# Altium footprint library my-common.PcbLib: 11 footprints
Each footprint in its own frame and in the unit in brackets; x right, y up, seen from the top. Pads: shape width x height; smd on the part's side, far side on the other; paste and mask are expansions set on the pad; w line width, h text height; cw(c..) or ccw(c..) is an arc to the next point about the centre after c.
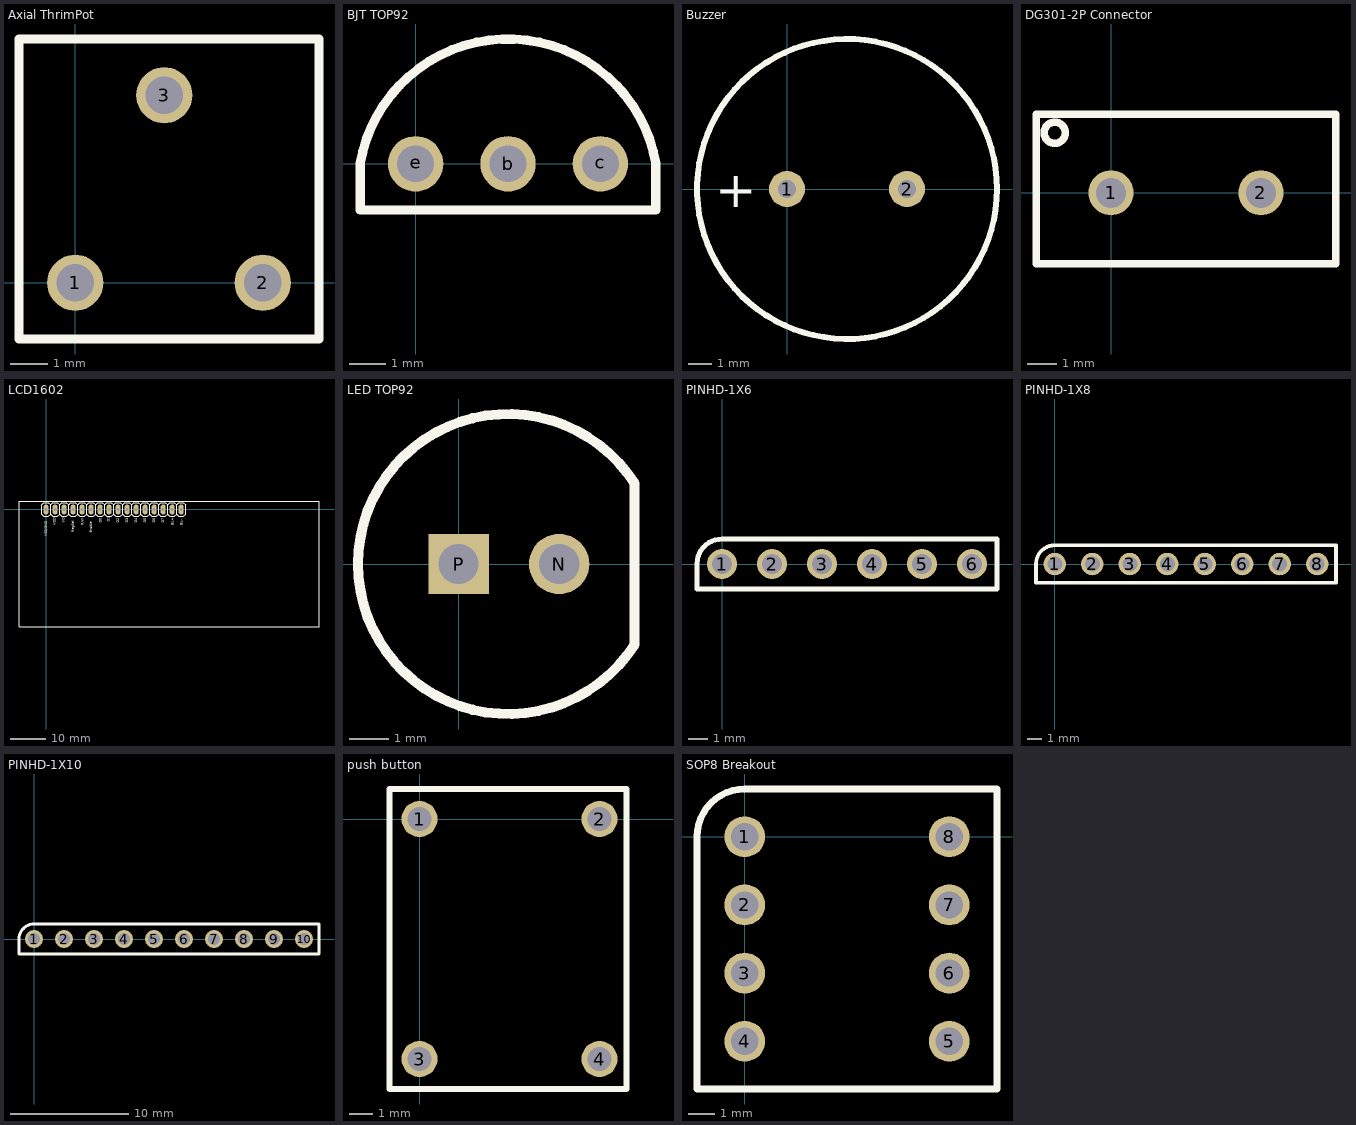
[diagram p0: the footprints below, top view; thin cyan lines are the x and y axes]

## Axial ThrimPot [mil]
pads (3):
  round 60 hole 40: 1(0,0) 2(200,0) 3(95,200)
Top Overlay:
  lines w10: -60,-60 260,-60 260,260 -60,260 -60,-60

## BJT TOP92 [mil]
pads (3):
  round 60 hole 40: b(100,0) c(200,0) e(0,0)
Top Overlay:
  lines w10: -60,-50 -60,-15.69 -60,0 cw(c100,-27.31) 260,0 260,-50 -60,-50

## Buzzer [mil]
pads (2):
  round 60 hole 30: 1(0,0) 2(200,0)
Top Overlay:
  circle w10: c100,0 r250
  text "+" at -120,-30 h60

## DG301-2P Connector [mil]
pads (2):
  round 60 hole 40: 1(0,0) 2(200,0)
Top Overlay:
  circle w10: c-75,80 r14.14
  lines w10: -100,-95 300,-95 300,105 -100,105 -100,-95

## LCD1602 [mil]
pads (16):
  oval 56x112 hole 34: 1(0,0) 2(100,0) 3(200,0) 4(300,0) 5(400,0) 6(500,0) 7(600,0) 8(700,0) 9(800,0) 10(900,0) 11(1000,0) 12(1100,0) 13(1200,0) 14(1300,0) 15(1400,0) 16(1500,0)
Top Overlay:
  lines w10: -50,-50 -25,-75 ; -50,-50 -50,50 ; -50,-50 -50,50 ; -50,-50 -25,-75 ; -50,50 -25,75 ; -50,50 -25,75 ; -25,-75 25,-75 ; -25,-75 25,-75 ; -25,75 25,75 ; -25,75 25,75 ; 25,-75 50,-50 ; 25,-75 50,-50 ; 25,75 50,50 ; 25,75 50,50 ; 50,-50 75,-75 125,-75 150,-50 ; 50,-50 50,50 ; 50,-50 50,50 ; 50,-50 50,50 ; 50,50 75,75 125,75 150,50 ; 150,-50 175,-75 225,-75 250,-50 ; 150,-50 150,50 ; 150,-50 150,50 ; 150,50 175,75 225,75 250,50 ; 250,-50 275,-75 325,-75 350,-50 ; 250,-50 250,50 ; 250,-50 250,50 ; 250,50 275,75 325,75 350,50 ; 350,-50 375,-75 425,-75 450,-50 ; 350,-50 350,50 ; 350,-50 350,50 ; 350,50 375,75 425,75 450,50 ; 450,-50 475,-75 525,-75 550,-50 ; 450,-50 450,50 ; 450,-50 450,50 ; 450,50 475,75 525,75 550,50 ; 550,-50 575,-75 625,-75 650,-50 ; 550,-50 550,50 ; 550,-50 550,50 ; 550,50 575,75 625,75 650,50 ; 650,-50 675,-75 725,-75 750,-50 ; 650,-50 650,50 ; 650,-50 650,50 ; 650,50 675,75 725,75 750,50 ; 750,-50 775,-75 825,-75 850,-50 ; 750,-50 750,50 ; 750,-50 750,50 ; 750,50 775,75 825,75 850,50 ; 850,-50 875,-75 925,-75 950,-50 ; 850,-50 850,50 ; 850,-50 850,50 ; 850,50 875,75 925,75 950,50 ; 950,-50 975,-75 1025,-75 1050,-50 ; 950,-50 950,50 ; 950,-50 950,50 ; 950,50 975,75 1025,75 1050,50 ; 1050,-50 1075,-75 1125,-75 1150,-50 ; 1050,-50 1050,50 ; 1050,-50 1050,50 ; 1050,50 1075,75 1125,75 1150,50 ; 1150,-50 1175,-75 1225,-75 1250,-50 ; 1150,-50 1150,50 ; 1150,-50 1150,50 ; 1150,50 1175,75 1225,75 1250,50 ; 1250,-50 1275,-75 1325,-75 1350,-50 ; 1250,-50 1250,50 ; 1250,-50 1250,50 ; 1250,50 1275,75 1325,75 1350,50 ; 1350,-50 1375,-75 1425,-75 1450,-50 ; 1350,-50 1350,50 ; 1350,-50 1350,50 ; 1350,50 1375,75 1425,75 1450,50 ; 1450,-50 1475,-75 1525,-75 1550,-50 1550,50 1525,75 1475,75 1450,50 ; 1450,-50 1450,50 ; 1450,-50 1450,50 ; -300,-1300 3030,-1300 3030,90 -300,90 -300,-1300
  text "BL-" at 1515,-174.99 h30
  text "D7" at 1310,-145 h30
  text "D6" at 1210,-145 h30
  text "D5" at 1110,-145 h30
  text "D4" at 1010,-145 h30
  text "D3" at 910,-145 h30
  text "D2" at 810,-145 h30
  text "D1" at 710,-135 h30
  text "BL+" at 1415,-174.99 h30
  text "D0" at 620,-145 h30
  text "Enable" at 515,-259.96 h30
  text "R/W" at 420,-174.99 h30
  text "RegSel" at 315,-254.96 h30
  text "VO" at 210,-145 h30
  text "VDD" at 110,-174.99 h30
  text "VSS/GND" at 15,-294.95 h30

## LED TOP92 [mil]
pads (2):
  round 60 hole 40: N(100,0)
  rect 60x60 hole 40: P(0,0)
Top Overlay:
  lines w10: 175,-80 cw(c49.14,0) 175,80 175,-80

## PINHD-1X6 [mil]
pads (6):
  round 60 hole 40: 1(0,0) 2(100,0) 3(200,0) 4(300,0) 5(400,0) 6(500,0)
Top Overlay:
  lines w10: -50,-50 550,-50 550,50 0,50 ccw(c0,0) -50,0 -50,-50

## PINHD-1X8 [mil]
pads (8):
  round 60 hole 40: 1(0,0) 2(100,0) 3(200,0) 4(300,0) 5(400,0) 6(500,0) 7(600,0) 8(700,0)
Top Overlay:
  lines w10: -50,-50 -50,0 cw(c0,0) 0,50 750,50 750,-50 -50,-50

## PINHD-1X10 [mil]
pads (10):
  round 60 hole 40: 1(0,0) 2(100,0) 3(200,0) 4(300,0) 5(400,0) 6(500,0) 7(600,0) 8(700,0) 9(800,0) 10(900,0)
Top Overlay:
  lines w10: -50,-50 950,-50 950,50 0,50 ccw(c0,0) -50,0 -50,-50

## push button [mil] "push button"
pads (4):
  round 60 hole 40: 1(0,0) 2(300,0) 3(0,-400) 4(300,-400)
Top Overlay:
  lines w10: -50,-450 345,-450 345,50 -25,50 -50,50 -50,-450

## SOP8 Breakout [mil] "SOP8 to Through Hole with 100mil pitch."
pads (8):
  round 60 hole 40: 1(0,0) 2(0,-100) 3(0,-200) 4(0,-300) 5(300,-300) 6(300,-200) 7(300,-100) 8(300,0)
Top Overlay:
  lines w10: -70,-370 370,-370 370,70 20,70 0,70 ccw(c0,0) -70,0 -70,-370